# Altium footprint library CAPACITORS_MKlib.PcbLib: 35 footprints (part 3 of 3)
Each footprint in its own frame and in the unit in brackets; x right, y up, seen from the top. Pads: shape width x height; smd on the part's side, far side on the other; paste and mask are expansions set on the pad; w line width, h text height; cw(c..) or ccw(c..) is an arc to the next point about the centre after c.
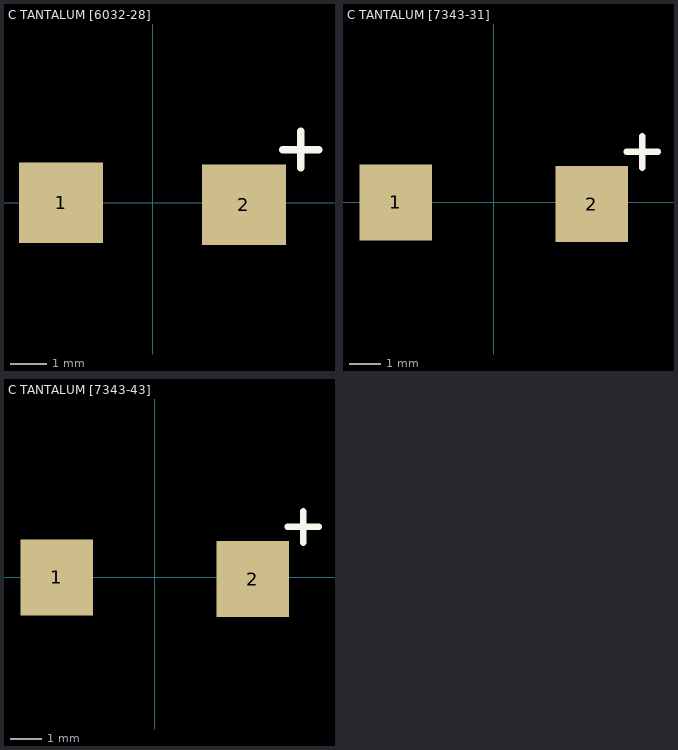
[diagram p2: the footprints below, top view; thin cyan lines are the x and y axes]

## C TANTALUM [6032-28] [mm] "Tantalum SMD capacitor 6.0x3.2x2.2 (mm) Type-C"
pads (2):
  rect 2.3x2.2 smd: 1(-2.5,0) 2(2.5,-0.05)
Top Overlay:
  lines w0.2: 3.55,1.45 4.55,1.45 ; 4.05,0.95 4.05,1.95
3D body "C_tantalum_6032-28.STEP": height 2.8, standoff 0, extent -3,-1.6 3,1.6

## C TANTALUM [7343-31] [mm] "Tantalum SMD capacitor 7.3x4.3x2.4 (mm) Type-D"
pads (2):
  rect 2.3x2.4 smd: 1(-3.1,0) 2(3.1,-0.05)
Top Overlay:
  lines w0.2: 4.2,1.6 5.2,1.6 ; 4.7,1.1 4.7,2.1
3D body "C_tantalum_7343-31.STEP": height 3.1, standoff 0, extent -3.65,-2.15 3.65,2.15

## C TANTALUM [7343-43] [mm] "Tantalum SMD capacitor 7.3x4.3x4.1 (mm) Type-E"
pads (2):
  rect 2.3x2.4 smd: 1(-3.1,0) 2(3.1,-0.05)
Top Overlay:
  lines w0.2: 4.2,1.6 5.2,1.6 ; 4.7,1.1 4.7,2.1
3D body "C_tantalum_7343-43.STEP": height 4.3, standoff 0, extent -3.65,-2.15 3.65,2.15